# Altium schematic symbol library 0805_C_0.1uf.SCHLIB: 1 symbol
Pins are listed as number, name and electrical type; pins without a type are passive.

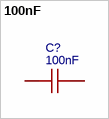
[diagram p0: symbol 100nF]

## 100nF
designator C?
BOM_Manufacturer: KEMET; BOM_Manufacturer Part: C0805C104K1RECAUTO; nameAlias: Capacitance; Contributor: LCSC; BOM_Supplier: LCSC; BOM_Supplier Part: C696367; spicePre: C; spiceSymbolName: C0805C104K1RECAUTO
footprint C0805
pins: 1, 2